# Altium schematic symbol library 智能车驱动板DRV8701E原理图库Schlib.SchLib: 2 symbols
Pins are listed as number, name and electrical type; pins without a type are passive.

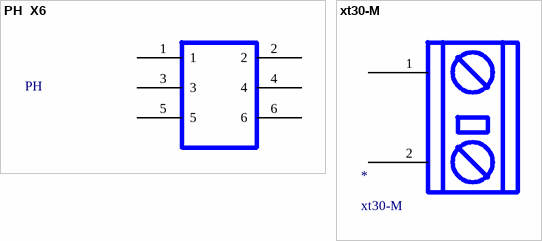
[diagram p0: symbols PH  X6 to xt30-M]

## PH  X6
designator PH
6脚PH
footprint PH  X6
pins: 1, 2, 3, 4, 5, 6

## xt30-M
designator *
电机驱动
footprint XT30-M
pins: 1, 2